# EAGLE library part DAC-DAC6571 (library eagleLib v2)
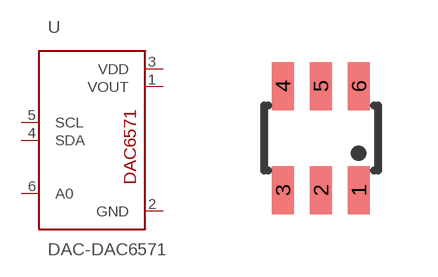
[diagram p38: symbol with the pads of SOT23-6; footprint SOT23-6]

Designator prefix -

## DAC-DAC6571-S  [SOT23-6]
1  VOUT
2  GND
3  VDD
4  SDA
5  SCL
6  A0

## Footprint SOT23-6 (pad centres in mm)
smd 0.55 x 1.2: 1 0.95,-1.3; 2 0,-1.3; 3 -0.95,-1.3; 4 -0.95,1.3; 5 0,1.3; 6 0.95,1.3